# Altium footprint library liuxiaolong.PcbLib: 61 footprints (part 2 of 4)
Each footprint in its own frame and in the unit in brackets; x right, y up, seen from the top. Pads: shape width x height; smd on the part's side, far side on the other; paste and mask are expansions set on the pad; w line width, h text height; cw(c..) or ccw(c..) is an arc to the next point about the centre after c.
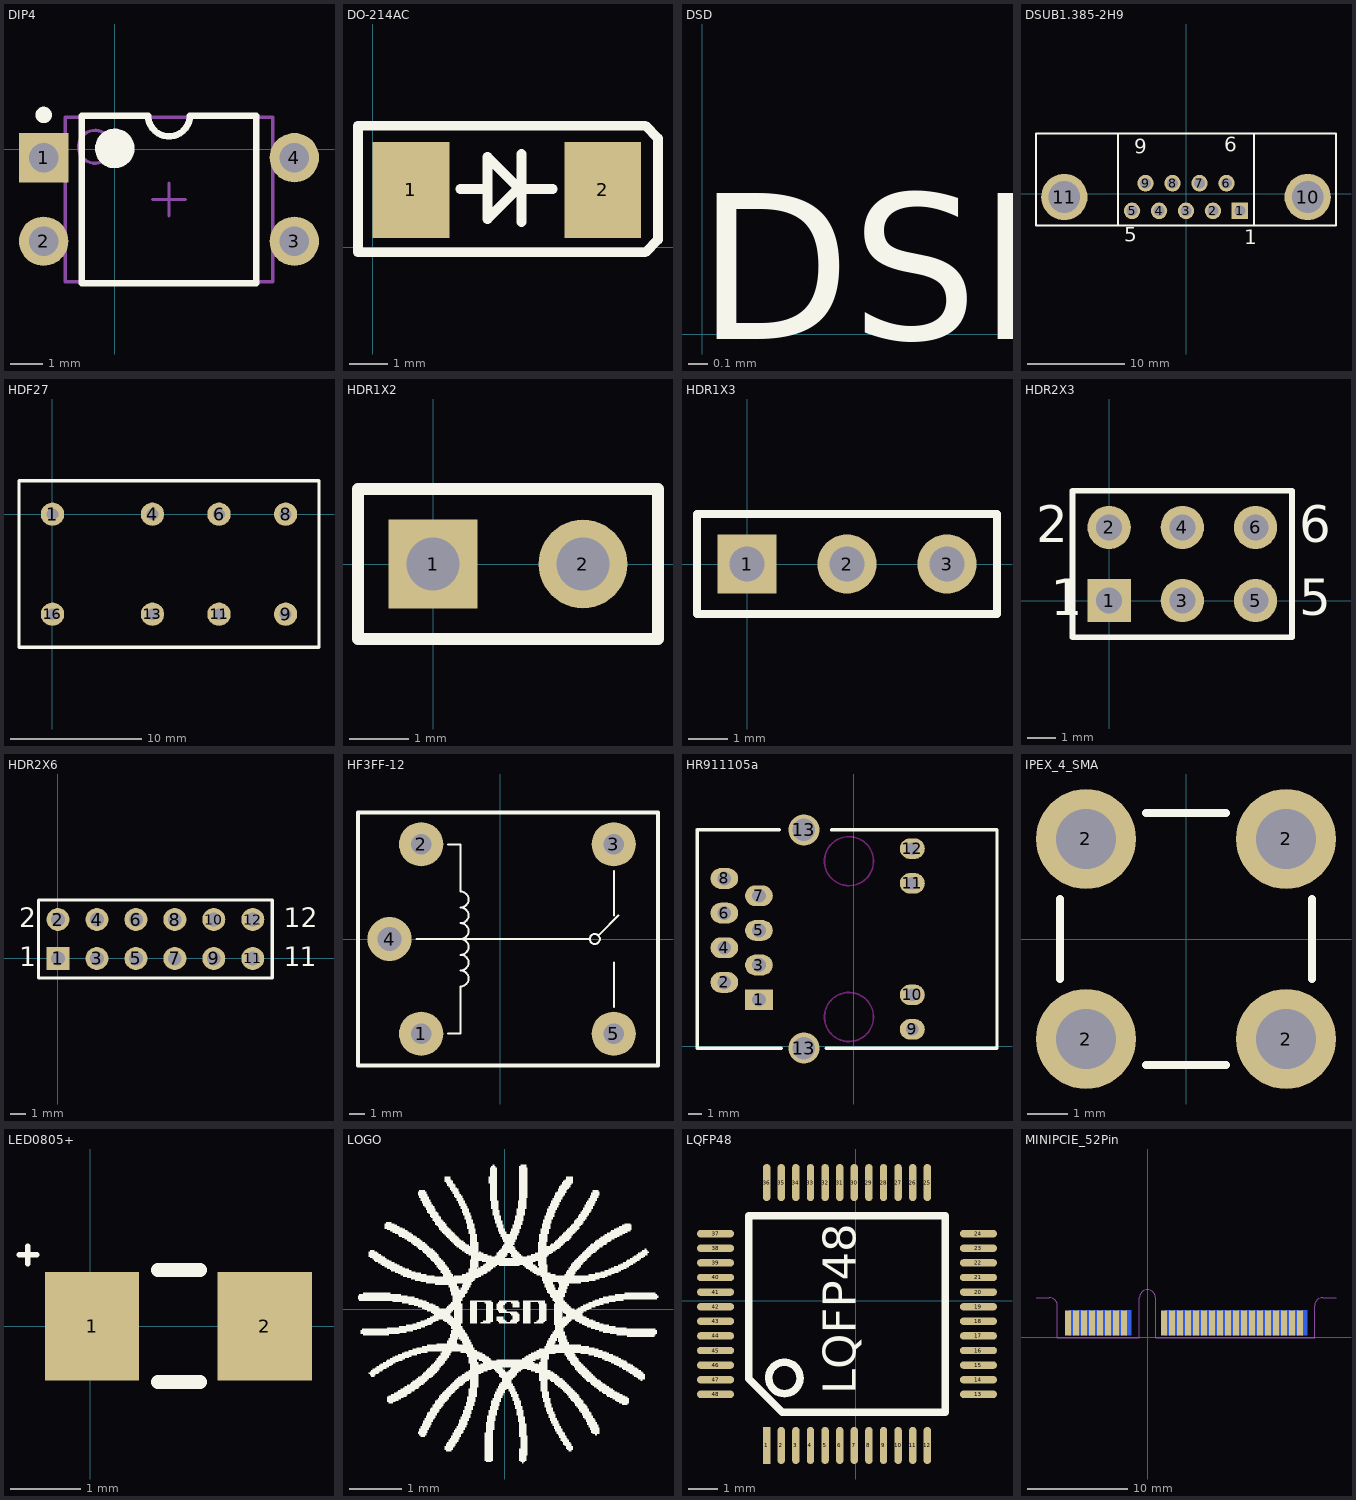
[diagram p1: the footprints below, top view; thin cyan lines are the x and y axes]

## DIP4 [mm]
height 5.6
pads (4):
  rect 1.5x1.5 hole 0.9: 1(-2.159,-0.254)
  round 1.5 hole 0.9: 2(-2.159,-2.794) 3(5.461,-2.794) 4(5.461,-0.254)
Top Overlay:
  circle w0.6: c0.001,0.026 r0.3
  circle w0.25: c-2.159,1.046 r0.125
  lines w0.2: -0.999,-4.074 4.301,-4.074 4.301,1.026 2.286,1.026 cw(c1.651,1.026) 1.016,1.026 -0.999,1.026 -0.999,-4.074
Mechanical 13:
  circle w0.1: c-0.599,0.076 r0.5
  lines w0.1: -1.499,-4.024 4.801,-4.024 4.801,0.976 -1.499,0.976 -1.499,-4.024
Mechanical 15:
  lines w0.1: 1.151,-1.524 2.151,-1.524 ; 1.651,-2.024 1.651,-1.024
3D body: height 5.6, standoff 0, extent -1.499,-4.024 4.801,0.976

## DO-214AC [mm]
pads (2):
  rect 2x2.5 smd: 1(1,1.5) 2(6,1.5)
Top Overlay:
  lines w0.254: 2.286,1.524 2.921,1.524 ; 3.81,1.549 2.997,0.737 2.997,2.362 2.997,2.358 3.882,1.473 ; 3.882,0.66 3.882,2.438 ; 4.039,1.524 4.699,1.524 ; 7.442,1.397 7.442,2.845 7.112,3.175 -0.381,3.175 -0.381,-0.127 7.112,-0.127 7.442,0.203 7.442,0.635 7.442,2.108

## DSD [mm]
Top Overlay:
  text "DSD" at -0.025,-0.025 h1.52

## DSUB1.385-2H9 [mm] "Connector; D Subminiature; 9 Position; Right Angle; Pitch 1.385 mm"
height 12.75
pads (11):
  rect 1.69x1.69 hole 1.09: 1(5.54,-1.776)
  round 1.69 hole 1.09: 2(2.77,-1.776) 3(0,-1.776) 4(-2.77,-1.776) 5(-5.54,-1.776) 6(4.155,1.064) 7(1.385,1.064) 8(-1.385,1.064) 9(-4.155,1.064)
  round 4.76 hole 3.26: 10(12.495,-0.356) 11(-12.495,-0.356)
Top Overlay:
  lines w0.2: -7,-3.256 -7,6.144 ; 7,-3.256 7,6.144 ; -15.4,-3.256 -15.4,6.144 15.4,6.144 15.4,-3.256 -15.4,-3.256
  text "1" at 5.969,-5.207 h1.5
  text "5" at -6.35,-4.953 h1.5
  text "9" at -5.334,4.064 h1.5
  text "6" at 3.937,4.318 h1.5

## HDF27 [mm]
height 1.27
pads (8):
  round 1.778 hole 0.9: 1(0,0) 4(7.625,0) 6(12.7,0) 8(17.775,0) 9(17.775,-7.625) 11(12.7,-7.625) 13(7.625,-7.625) 16(0,-7.625)
Top Overlay:
  lines w0.254: -2.554,-10.15 20.325,-10.15 20.325,2.55 -2.554,2.55 -2.554,-10.15

## HDR1X2 [mm] "Connector; Header; 2 Position"
pads (2):
  rect 1.5x1.5 hole 0.9: 1(0,0)
  round 1.5 hole 0.9: 2(2.54,0)
Top Overlay:
  lines w0.2: -1.27,-1.27 -1.27,1.27 3.81,1.27 3.81,-1.27 -1.27,-1.27

## HDR1X3 [mm] "Connector; Header; 3 Position"
pads (3):
  rect 1.5x1.5 hole 0.9: 1(0,0)
  round 1.5 hole 0.9: 2(2.54,0) 3(5.08,0)
Top Overlay:
  lines w0.2: -1.27,-1.27 6.35,-1.27 6.35,1.27 -1.27,1.27 -1.27,-1.27

## HDR2X3 [mm] "Connector; Header; 3x2 Position"
pads (6):
  rect 1.5x1.5 hole 0.9: 1(0,0)
  round 1.5 hole 0.9: 2(0,2.54) 3(2.54,0) 4(2.54,2.54) 5(5.08,0) 6(5.08,2.54)
Top Overlay:
  lines w0.2: 1.482,-1.27 6.35,-1.27 ; 6.35,-1.27 6.35,3.81 -1.27,3.81 -1.27,-1.27 6.35,-1.27
  text "6" at 6.604,2.032 h1.27
  text "5" at 6.604,-0.508 h1.27
  text "2" at -2.54,2.032 h1.27
  text "1" at -2.032,-0.508 h1.27

## HDR2X6 [mm] "Connector; Header; 6x2 Position"
pads (12):
  rect 1.5x1.5 hole 0.9: 1(0,0)
  round 1.5 hole 0.9: 2(0,2.54) 3(2.54,0) 4(2.54,2.54) 5(5.08,0) 6(5.08,2.54) 7(7.62,0) 8(7.62,2.54) 9(10.16,0) 10(10.16,2.54) 11(12.7,0) 12(12.7,2.54)
Top Overlay:
  lines w0.2: -1.27,-1.27 -1.27,3.81 13.97,3.81 13.97,-1.27 -1.27,-1.27
  text "2" at -2.54,2.032 h1.27
  text "1" at -2.54,-0.508 h1.27
  text "1" at 14.732,-0.508 h1.27
  text "1" at 15.748,-0.508 h1.27
  text "12" at 14.732,2.032 h1.27

## HF3FF-12 [mm] "宏发继电器12VDC"
pads (5):
  round 2.8 hole 1.3: 1(-5,-6) 2(-5,6) 3(7.2,6) 5(7.2,-6)
  round 2.8 hole 1.5: 4(-7,0)
Top Overlay:
  circle w0.127: c6,0 r0.316
  lines w0.127: -5.3,0 2.5,0 5.6,0 ; -3.3,-6 -2.5,-6 -2.5,-3 ccw(c-2.5,-2.5) -2.5,-2 ccw(c-2.5,-1.5) -2.5,-1 ccw(c-2.5,-0.5) -2.5,0 ccw(c-2.5,0.5) -2.5,1 ccw(c-2.5,1.5) -2.5,2 ccw(c-2.5,2.5) -2.5,3 -2.5,6 -3.3,6 ; 6.3,0.3 7.5,1.5 ; 7.2,-4.3 7.2,-1.5 ; 7.2,1.5 7.2,4.3
  lines w0.254: -9,-8 10,-8 10,8 -9,8 -9,-8

## HR911105a [mil]
pads (14):
  rect 80x60 hole 40: 1(-274.44,134.64)
  oval 80x60 hole 40: 2(-374.44,184.64) 3(-274.44,234.64) 4(-374.44,284.64) 5(-274.44,334.64) 6(-374.44,384.64) 7(-274.44,434.64) 8(-374.44,484.64)
  oval 72x60 hole 36: 9(168.47,49.01) 10(168.47,148.64) 11(168.47,470.51) 12(168.47,570.64)
  round 90 hole 65: 13(-144.52,-5.12) 13(-144.52,624.8)
Top Overlay:
  lines w10: -453.18,-5.36 -452.95,-5.12 ; -453.18,624.64 -453.02,624.8 ; -215,624.8 -453.02,624.8 ; -210,-5.36 -210.24,-5.12 -452.95,-5.12 ; -80,-5.36 412.96,-5.36 412.96,624.64 -64.69,624.64 -64.84,624.8 ; -453.02,624.8 -453.02,-5.05 -452.95,-5.12
Keep-Out Layer:
  circle w5: c-14.44,84.64 r70.8
  circle w5: c-14.44,534.64 r70.8

## IPEX_4_SMA [mm]
pads (4):
  round 2.5 hole 1.5: 2(-2.5,-2.5) 2(-2.5,2.5) 2(2.5,-2.5) 2(2.5,2.5)
Top Overlay:
  lines w0.2: -3.15,-1 -3.15,1 ; -1,-3.15 1,-3.15 ; -1,3.15 1,3.15 ; 3.15,-1 3.15,1

## LED0805+ [mil]
height 70
pads (2):
  rect 52.99x60.87 smd: 1(1,0) 2(98,0)
Top Overlay:
  lines w3: -40,40 -30,40 ; -35,35 -35,45
  lines w7.87: 38.05,-31.35 61.68,-31.35 ; 38.05,31.64 61.68,31.64

## LOGO [mm]
Top Overlay:
  drawing of 1258 lines, arcs and shapes, not listed

## LQFP48 [mil]
pads (48):
  rect 10x50 smd: 1(-120,-195)
  oval 10x50 smd: 2(-100.32,-195) 3(-80.63,-195) 4(-60.95,-195) 5(-41.26,-195) 6(-21.58,-195) 7(-1.89,-195) 8(17.79,-195) 9(37.48,-195) 10(57.16,-195) 11(76.85,-195) 12(96.53,-195) 25(96.53,159.33) 26(76.85,159.33) 27(57.16,159.33) 28(37.48,159.33) 29(17.79,159.33) 30(-1.89,159.33) 31(-21.58,159.33) 32(-41.26,159.33) 33(-60.95,159.33) 34(-80.63,159.33) 35(-100.32,159.33) 36(-120,159.33)
  oval 50x10 smd: 13(165.43,-126.1) 14(165.43,-106.42) 15(165.43,-86.73) 16(165.43,-67.05) 17(165.43,-47.36) 18(165.43,-27.68) 19(165.43,-7.99) 20(165.43,11.69) 21(165.43,31.38) 22(165.43,51.06) 23(165.43,70.75) 24(165.43,90.43) 37(-188.9,90.43) 38(-188.9,70.75) 39(-188.9,51.06) 40(-188.9,31.38) 41(-188.9,11.69) 42(-188.9,-7.99) 43(-188.9,-27.68) 44(-188.9,-47.36) 45(-188.9,-67.05) 46(-188.9,-86.73) 47(-188.9,-106.42) 48(-188.9,-126.1)
Top Overlay:
  lines w10: -101.46,-83.61 ccw(c-96.09,-104.01) -98,-83 ; -143.9,-105 -98.9,-150 120.43,-150 120.43,114.33 -143.9,114.33 -143.9,-105
  text "LQFP48" at 0.02,-126.11 h44.25

## MINIPCIE_52Pin [mm]
height 0.508
pads (52):
  rect 0.6x2.5 smd: 1(-7.975,1.425) 3(-7.175,1.425) 5(-6.375,1.425) 7(-5.575,1.425) 9(-4.775,1.425) 11(-3.975,1.425) 13(-3.175,1.425) 15(-2.375,1.425) 17(1.625,1.425) 19(2.425,1.425) 21(3.225,1.425) 23(4.025,1.425) 25(4.825,1.425) 27(5.625,1.425) 29(6.425,1.425) 31(7.225,1.425) 33(8.025,1.425) 35(8.825,1.425) 37(9.625,1.425) 39(10.425,1.425) 41(11.225,1.425) 43(12.025,1.425) 45(12.825,1.425) 47(13.625,1.425) 49(14.425,1.425) 51(15.225,1.425)
  rect 0.6x2.5 smd far side: 2(-7.575,1.425) 4(-6.775,1.425) 6(-5.975,1.425) 8(-5.175,1.425) 10(-4.375,1.425) 12(-3.575,1.425) 14(-2.775,1.425) 16(-1.975,1.425) 18(2.025,1.425) 20(2.825,1.425) 22(3.625,1.425) 24(4.425,1.425) 26(5.225,1.425) 28(6.025,1.425) 30(6.825,1.425) 32(7.625,1.425) 34(8.425,1.425) 36(9.225,1.425) 38(10.025,1.425) 40(10.825,1.425) 42(11.625,1.425) 44(12.425,1.425) 46(13.225,1.425) 48(14.025,1.425) 50(14.825,1.425) 52(15.625,1.425)
Top Solder:
  rectangle: -9,-0.1 16.7,2.692
Bottom Solder:
  rectangle: -9,-0.1 16.7,2.54
Mechanical 1:
  lines w0.1: -11.175,3.925 -9.825,3.925 cw(c-9.825,3.125) -9.025,3.125 -9.025,-0.075 -0.825,-0.075 -0.825,3.925 cw(c-0.025,3.925) 0.775,3.925 0.775,-0.075 16.675,-0.075 16.675,3.125 cw(c17.475,3.125) 17.475,3.925 18.825,3.925